# Altium schematic symbol library MCU.SchLib: 3 symbols
Pins are listed as number, name and electrical type; pins without a type are passive.

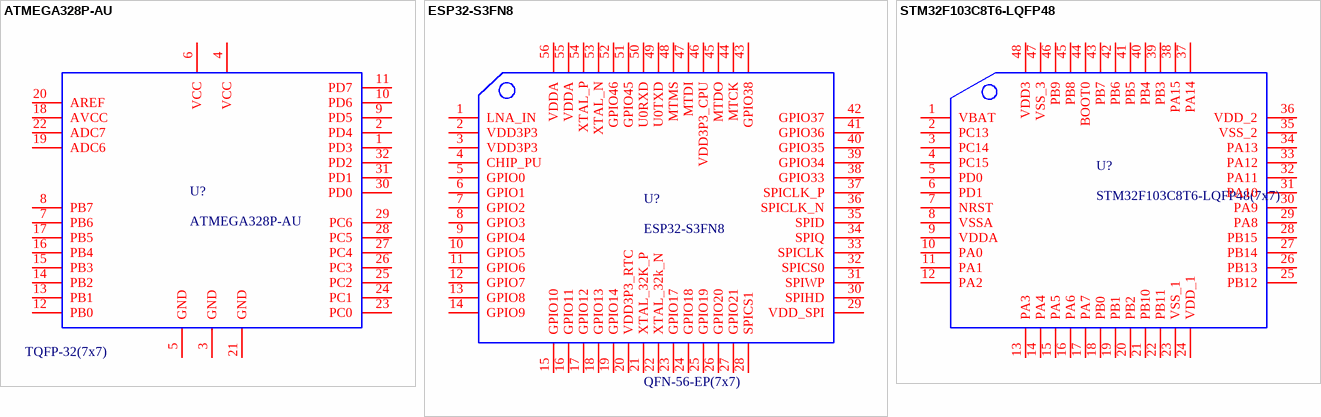
[diagram p0: symbols ATMEGA328P-AU to STM32F103C8T6-LQFP48]

## ATMEGA328P-AU
designator U?  Package: TQFP-32(7x7)
AVR 20MHz TQFP-32(7x7) Microcontrollers (MCU/MPU/SOC) ROHS; Manufacturer: MICROCHIP; Key Attributes: 8-bit Microcontroller with In-System Programmable Flash; ADC (Bit): 10bit; Number of I/O: 23; Program Memory Type: FLASH; EEPROM: 1KB; Program Storage Size: 32KB; Voltage - Supply: 1.8V~5.5V; Mfr. Part: ATMEGA328P-AU; LCSC Part: C14877; CPU Core: AVR; CPU Maximum Speed: 20MHz; Link: https://www.lcsc.com/product-detail/C14877.html
footprint TQFP-32 (7x7)
pins: 1 PD3, 2 PD4, 3 GND, 4 VCC, 5 GND, 6 VCC, 7 PB6, 8 PB7, 9 PD5, 10 PD6, 11 PD7, 12 PB0, 13 PB1, 14 PB2, 15 PB3, 16 PB4, 17 PB5, 18 AVCC, 19 ADC6, 20 AREF, 21 GND, 22 ADC7, 23 PC0, 24 PC1, 25 PC2, 26 PC3, 27 PC4, 28 PC5, 29 PC6, 30 PD0, 31 PD1, 32 PD2

## ESP32-S3FN8
designator U?  Package: QFN-56-EP(7x7)
QFN-56-EP(7x7) Microcontrollers (MCU/MPU/SOC) ROHS; Manufacturer: ESPRESSIF; Flash: 8MB; Voltage: 3.3V; Mfr. Part: ESP32-S3FN8; LCSC Part: C2913196; Category: Embedded Processors & Controllers/Microcontrollers (MCU/MPU/SOC); Link: https://www.lcsc.com/product-detail/C2913196.html
footprint QFN-56-EP (7x7)
pins: 1 LNA_IN, 2 VDD3P3, 3 VDD3P3, 4 CHIP_PU, 5 GPIO0, 6 GPIO1, 7 GPIO2, 8 GPIO3, 9 GPIO4, 10 GPIO5, 11 GPIO6, 12 GPIO7, 13 GPIO8, 14 GPIO9, 15 GPIO10, 16 GPIO11, 17 GPIO12, 18 GPIO13, 19 GPIO14, 20 VDD3P3_RTC, 21 XTAL_32K_P, 22 XTAL_32k_N, 23 GPIO17, 24 GPIO18, 25 GPIO19, 26 GPIO20, 27 GPIO21, 28 SPICS1, 29 VDD_SPI, 30 SPIHD, 31 SPIWP, 32 SPICS0, 33 SPICLK, 34 SPIQ, 35 SPID, 36 SPICLK_N, 37 SPICLK_P, 38 GPIO33, 39 GPIO34, 40 GPIO35, 41 GPIO36, 42 GPIO37, 43 GPIO38, 44 MTCK, 45 MTDO, 46 VDD3P3_CPU, 47 MTDI, 48 MTMS, 49 U0TXD, 50 U0RXD, 51 GPIO45, 52 GPIO46, 53 XTAL_N, 54 XTAL_P, 55 VDDA, 56 VDDA

## STM32F103C8T6-LQFP48
designator U?, comment STM32F103C8T6-LQFP48(7x7)
ARM-M3 72MHz LQFP-48(7x7) Microcontrollers (MCU/MPU/SOC) ROHS; Manufacturer: ST; Key Attributes: Medium-density performance line Arm-based 32-bit MCU with 64 or 128 KB Flash, USB, CAN, 7 timers, 2 ADCs, 9 com. interfaces; ADC (Bit): 12bit; Number of I/O: 37; Program Memory Type: FLASH; Program Storage Size: 64KB; Voltage - Supply: 2V~3.6V; Mfr. Part: STM32F103C8T6; LCSC Part: C8734; Package: LQFP-48(7x7); CPU Core: ARM-M3; CPU Maximum Speed: 72MHz; Link: https://www.lcsc.com/product-detail/C8734.html
footprint LQFP-48 (7x7)
pins: 1 VBAT, 2 PC13, 3 PC14, 4 PC15, 5 PD0, 6 PD1, 7 NRST, 8 VSSA, 9 VDDA, 10 PA0, 11 PA1, 12 PA2, 13 PA3, 14 PA4, 15 PA5, 16 PA6, 17 PA7, 18 PB0, 19 PB1, 20 PB2, 21 PB10, 22 PB11, 23 VSS_1, 24 VDD_1, 25 PB12, 26 PB13, 27 PB14, 28 PB15, 29 PA8, 30 PA9, 31 PA10, 32 PA11, 33 PA12, 34 PA13, 35 VSS_2, 36 VDD_2, 37 PA14, 38 PA15, 39 PB3, 40 PB4, 41 PB5, 42 PB6, 43 PB7, 44 BOOT0, 45 PB8, 46 PB9, 47 VSS_3, 48 VDD3